# Altium schematic symbol library Communication.SchLib: 3 symbols
Pins are listed as number, name and electrical type; pins without a type are passive.

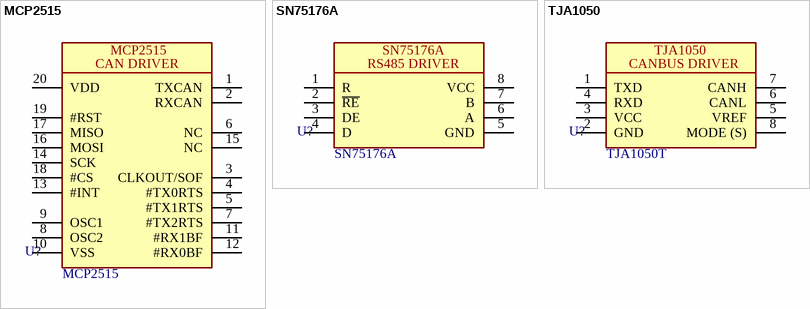
[diagram p0: symbols MCP2515 to TJA1050]

## MCP2515
designator U?  value MCP2515
CAN Interface IC; Manufacturer 1: *; Manufacturer Part Number 1: *
footprint MCP2515-ST
pins: 1 TXCAN, 2 RXCAN, 3 CLKOUT/SOF, 4 #TX0RTS, 5 #TX1RTS, 6 NC, 7 #TX2RTS, 8 OSC2, 9 OSC1, 10 VSS, 11 #RX1BF, 12 #RX0BF, 13 #INT, 14 SCK, 15 NC, 16 MOSI, 17 MISO, 18 #CS, 19 #RST, 20 VDD
text: CAN DRIVER

## SN75176A
designator U?  value SN75176A
RS485/422 Driver IC; Manufacturer 1: *; Manufacturer Part Number 1: *
footprint SN75176A
pins: 1 R, 2 ~{RE}, 3 DE, 4 D, 5 GND, 6 A, 7 B, 8 VCC
text: RS485 DRIVER

## TJA1050
designator U?  value TJA1050T
CAN Transceiver IC; Manufacturer 1: *; Manufacturer Part Number 1: *
footprint TJA1050T (SOIC, 8-Leads, Body 4.90x3.90mm, Pitch 1.27mm, IPC Low Density)
pins: 1 TXD, 2 GND, 3 VCC, 4 RXD, 5 VREF, 6 CANL, 7 CANH, 8 MODE (S)
text: CANBUS DRIVER